# Altium footprint library L-3.PcbLib: 1 footprints
Each footprint in its own frame and in the unit in brackets; x right, y up, seen from the top. Pads: shape width x height; smd on the part's side, far side on the other; paste and mask are expansions set on the pad; w line width, h text height; cw(c..) or ccw(c..) is an arc to the next point about the centre after c.
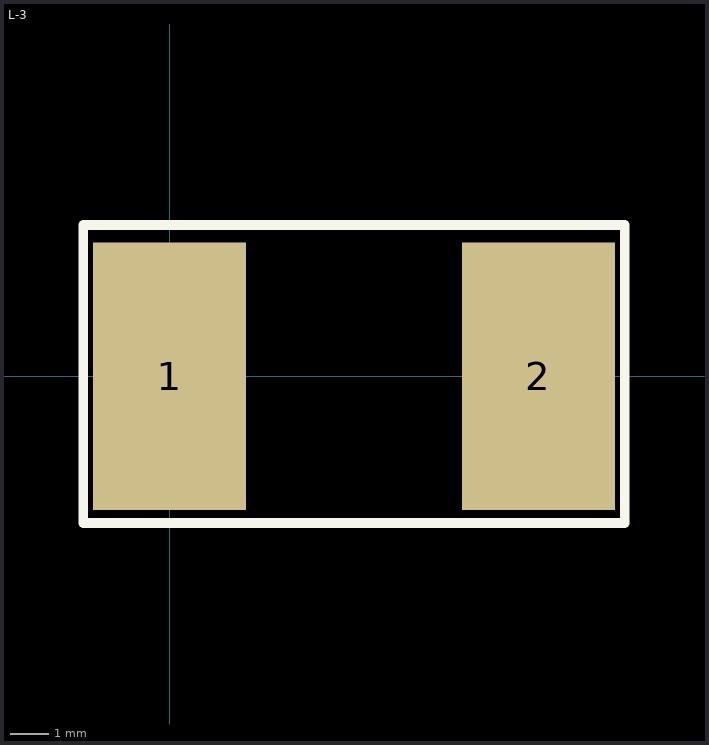
[diagram p0: the footprint, top view; thin cyan lines are the x and y axes]

## L-3 [mm]
pads (2):
  rect 4x7 smd: 1(0,0) 2(9.652,0)
Top Overlay:
  lines w0.254: -2.261,-3.835 -2.261,3.962 11.913,3.962 11.913,-3.835 -2.261,-3.835